# EAGLE library part 750510284 (library Wurth Electronics Midcom Inc V1-0)
Package Style: Non Standard EP13 SMD Mounting: SMD Pins: 16 pins Bobbin: 070-5511 Windings Primary: Aux: Secondary: Best pinouts for production vary per application. Please contact Wurth Electronics Midcom, Inc. for assistance with your custom design. Datasheet: 750510284 <http://www.we-online.com/web/en/index.php/show/media/passive_components_-_custom_magnetics/pdf_doc_files/spec_sheets/7505/750510284.pdf> Website: Wurth Electronics Midcom <http://www.we-online.com/midcom> Contact us Wurth Electronics Midcom, Inc. 121 Airport Dr. Watertown, SD 57201 Phone: (605) 886-4385 Fax: (605) 886-4486 E-Mail: midcom@we-online.com
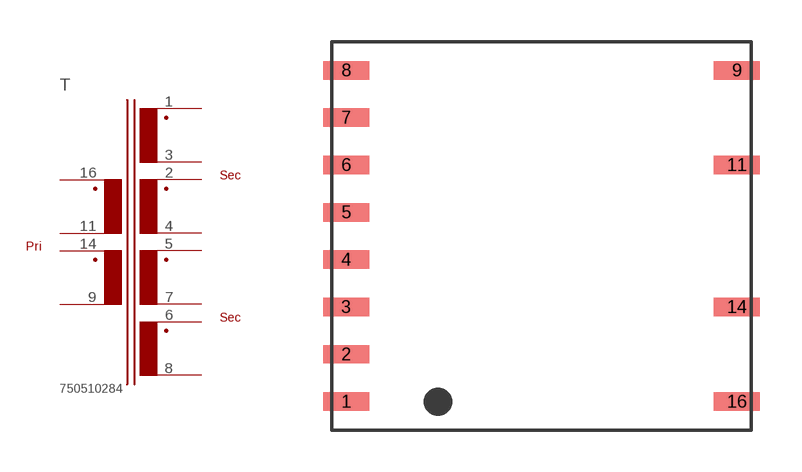
[diagram p73: symbol with the pads of 99NONSTANDARD_EP13_SMD_12PIN_0705511; footprint 99NONSTANDARD_EP13_SMD_12PIN_0705511]

Designator prefix T

## 750510284  [99NONSTANDARD_EP13_SMD_12PIN_0705511]
1  5  pas
2  7  pas
3  6  pas
4  8  pas
5  9  pas
6  11  pas
7  10  pas
8  12  pas
9  1  pas
11  3  pas
14  2  pas
16  4  pas

## Footprint 99NONSTANDARD_EP13_SMD_12PIN_0705511 (pad centres in mm)
Package Style: Non Standard 0705511 EP13 SMD Mounting: SMD Pins: 12
smd 1.651 x 0.66: 1 -7.023,-5.956; 2 -7.023,-4.255; 3 -7.023,-2.553; 4 -7.023,-0.851; 5 -7.023,0.851; 6 -7.023,2.553; 7 -7.023,4.255; 8 -7.023,5.956; 9 7.023,5.956; 11 7.023,2.553; 14 7.023,-2.553; 16 7.023,-5.956